# Altium integrated library MF-IC-POWER.IntLib: 2 symbols
Pins are listed as number, name and electrical type; pins without a type are passive.

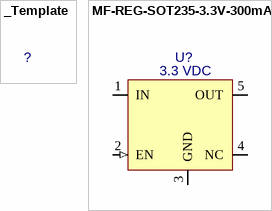
[diagram p0: symbols _Template to MF-REG-SOT235-3.3V-300mA]

## _Template
designator ?  (value not drawn)
Operating Temperature Range: *; RoHS: *; Package: *; ComponentLink1Description: Datasheet; ComponentLink1URL: *; ComponentLink2Description: Supplier Link 1; ComponentLink2URL: *; Supplier 1: Macrofab; Supplier Part Number 1: *; Manufacturer 1: *; Manufacturer Part Number 1: *

## MF-REG-SOT235-3.3V-300mA
designator U?  Output Voltage: 3.3 VDC  (hidden comment: MF-REG-SOT235-3.3V-300mA)
3.3v, 300mA Voltage Regulator Low Drop-Out, Low Quiescent Noise SOT-23-5; Manufacturer 1: Texas Instruments; Manufacturer Part Number 1: TLV70233DBVT; Output Capacitor Type: Ceramic; Quiescent Current: 3e-05; Number of Regulated Outputs: 1; Dropout Voltage: 0.22; Output Current: 0.3; Operating Temperature Range: - 40 C + 125 C; RoHS: Compliant; Package: SOT-23; ComponentLink1Description: Datasheet; ComponentLink1URL: https://s3.amazonaws.com/mfprodpublic/datasheets/slvsag6c-537329.pdf; ComponentLink2Description: Supplier Link 1; ComponentLink2URL: https://factory.macrofab.com/part/MF-REG-SOT235-3.3V-300mA; Supplier 1: Macrofab; Supplier Part Number 1: MF-REG-SOT235-3.3V-300mA; Number of Pins: 5
footprint SOT-23-5 (SOT23, 5-Leads, Body 2.89x2.80mm, Pitch 0.95mm, IPC Medium Density)
pins: 1 IN (power), 2 EN (in), 3 GND (power), 4 NC, 5 OUT (power)